# EAGLE library part 418121160810 (library Wurth_Elektronik_Electromechanic_Switchs_rev15b)
WS-IC-2.54 mm small compact SMD Dip Switch with top tape,20 pins,10 poles
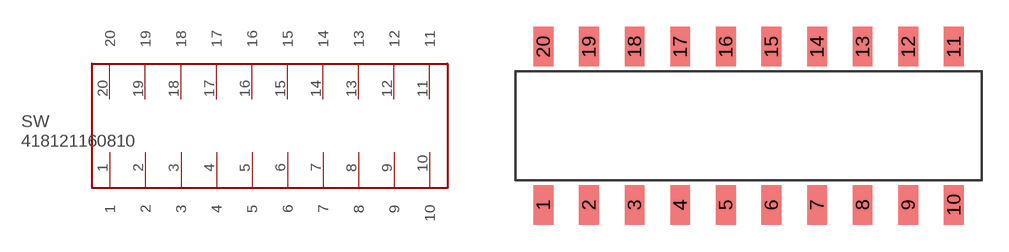
[diagram p37: symbol with the pads of 418121160810; footprint 418121160810]

Designator prefix SW

## 418121160810  [418121160810]
1  1
2  2
3  3
4  4
5  5
6  6
7  7
8  8
9  9
10  10
11  11
12  12
13  13
14  14
15  15
16  16
17  17
18  18
19  19
20  20

## Footprint 418121160810 (pad centres in mm)
WS-IC-2.54 mm small compact SMD Dip Switch with top tape,20 pins,10 poles
smd 1.1 x 2.2: 1 0,-4.4; 2 2.54,-4.4; 3 5.08,-4.4; 4 7.62,-4.4; 5 10.16,-4.4; 6 12.7,-4.4; 7 15.24,-4.4; 8 17.78,-4.4; 9 20.32,-4.4; 10 22.86,-4.4; 11 22.86,4.4; 12 20.32,4.4; 13 17.78,4.4; 14 15.24,4.4; 15 12.7,4.4; 16 10.16,4.4; 17 7.62,4.4; 18 5.08,4.4; 19 2.54,4.4; 20 0,4.4